# Altium integrated library Molex FFC - FPC Connectors (LVDS FFC Connectors).IntLib: 6 symbols
Pins are listed as number, name and electrical type; pins without a type are passive.

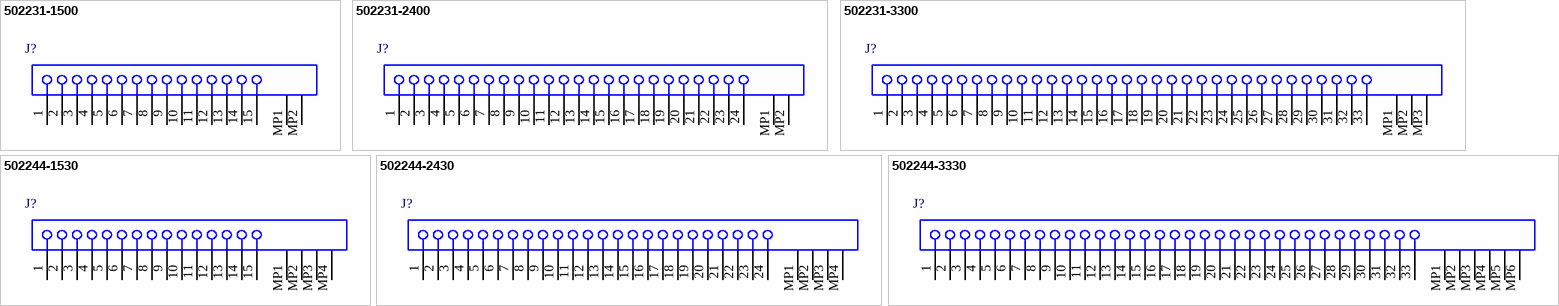
[diagram p0: symbols 502231-1500 to 502244-3330]

## 502231-1500
designator J?
0.5 mm Pitch Easy-On(TM) Type FFC Connector, for LVDS, 6.05 mm Mated Height, Vertical, ZIF, SMT, Top Contact, 15 Circuits, -25 to 85 degC, ELV and RoHS Compliant, Tape and Reel; Manufacturer: Molex; PartNumber: 502231-1500; Circuits (Loaded): 15; Current (Max per Contact): 0.4A; Durability (mating cycles max): 20; Mated Height: 6.05mm; Material - Metal: Phosphor Bronze; Material - Plating Mating: Gold, Tin; PCB Locator: No; PCB Retention: Yes; Pitch - Mating Interface: 0.50mm; Voltage (Max): 50V AC (RMS)/DC; PackageVersion: Rev. C, 03/2009; PackageReference: 502231-1500; PackageDescription: 15-Lead FFC Connector, Pitch 0.5 mm; Supplier 1: Newark; Supplier Part Number 1: 92M4918; Supplier 2: Mouser; Supplier Part Number 2: 538-502231-1500; Contact Position: Top; Entry Angle: Vertical; Material - Plating Termination: Gold, Tin; Number of Rows: 1; Orientation: Vertical; Packing: Tape and Reel; Pitch - Termination Interface: 0.50mm; Polarized to PCB: Yes; RoHS: TRUE; Stackable: No; Mounting Technology: Surface Mount; ComponentLink1Description: Manufacturer URL; ComponentLink1URL: http://www.molex.com/molex/index.jsp; ComponentLink2Description: Datasheet; ComponentLink2URL: http://www.molex.com/webdocs/datasheets/pdf/en-us/5022311500_FFC_FPC_CONNECTORS.pdf; ComponentLink3Description: Package Specification; ComponentLink3URL: http://www.molex.com/pdm_docs/sd/5022311500_sd.pdf
footprint MOLX-502231-1500 (FFC Connector, 15-Leads, Vertical, Pitch 0.5 mm, Mated Height 6.05 mm, SMT)
pins: 1, 2, 3, 4, 5, 6, 7, 8, 9, 10, 11, 12, 13, 14, 15, MP1, MP2

## 502231-2400
designator J?
0.5 mm Pitch Easy-On(TM) Type FFC Connector, for LVDS, 6.05 mm Mated Height, Vertical, ZIF, SMT, Top Contact, 24 Circuits, -25 to 85 degC, ELV and RoHS Compliant, Tape and Reel; Manufacturer: Molex; PartNumber: 502231-2400; Circuits (Loaded): 24; Current (Max per Contact): 0.4A; Durability (mating cycles max): 20; Mated Height: 6.05mm; Material - Metal: Phosphor Bronze; Material - Plating Mating: Gold, Tin; PCB Locator: No; PCB Retention: Yes; Pitch - Mating Interface: 0.50mm; Voltage (Max): 50V AC (RMS)/DC; PackageVersion: Rev. C, 03/2009; PackageReference: 502231-2400; PackageDescription: 24-Lead FFC Connector, Pitch 0.5 mm; Supplier 1: Mouser; Supplier Part Number 1: 538-502231-2400; Contact Position: Top; Entry Angle: Vertical; Material - Plating Termination: Gold, Tin; Number of Rows: 1; Orientation: Vertical; Packing: Tape and Reel; Pitch - Termination Interface: 0.50mm; Polarized to PCB: Yes; RoHS: TRUE; Stackable: No; Mounting Technology: Surface Mount; ComponentLink1Description: Manufacturer URL; ComponentLink1URL: http://www.molex.com/molex/index.jsp; ComponentLink2Description: Datasheet; ComponentLink2URL: http://www.molex.com/webdocs/datasheets/pdf/en-us/5022312400_FFC_FPC_CONNECTORS.pdf; ComponentLink3Description: Package Specification; ComponentLink3URL: http://www.molex.com/pdm_docs/sd/5022312400_sd.pdf
footprint MOLX-502231-2400 (FFC Connector, 24-Leads, Vertical, Pitch 0.5 mm, Mated Height 6.05 mm, SMT)
pins: 1, 2, 3, 4, 5, 6, 7, 8, 9, 10, 11, 12, 13, 14, 15, 16, 17, 18, 19, 20, 21, 22, 23, 24, MP1, MP2

## 502231-3300
designator J?
0.5 mm Pitch Easy-On(TM) Type FFC Connector, for LVDS, 6.05 mm Mated Height, Vertical, ZIF, SMT, Top Contact, 33 Circuits, -25 to 85 degC, ELV and RoHS Compliant, Tape and Reel; Manufacturer: Molex; PartNumber: 502231-3300; Circuits (Loaded): 33; Current (Max per Contact): 0.4A; Durability (mating cycles max): 20; Mated Height: 6.05mm; Material - Metal: Phosphor Bronze; Material - Plating Mating: Gold, Tin; PCB Locator: No; PCB Retention: Yes; Pitch - Mating Interface: 0.50mm; Voltage (Max): 50V AC (RMS)/DC; PackageVersion: Rev. C, 03/2009; PackageReference: 502231-3300; PackageDescription: 33-Lead FFC Connector, Pitch 0.5 mm; Supplier 1: Newark; Supplier Part Number 1: 92M4919; Supplier 2: Mouser; Supplier Part Number 2: 538-502231-3300; Contact Position: Top; Entry Angle: Vertical; Material - Plating Termination: Gold, Tin; Number of Rows: 1; Orientation: Vertical; Packing: Tape and Reel; Pitch - Termination Interface: 0.50mm; Polarized to PCB: Yes; RoHS: TRUE; Stackable: No; Mounting Technology: Surface Mount; ComponentLink1Description: Manufacturer URL; ComponentLink1URL: http://www.molex.com/molex/index.jsp; ComponentLink2Description: Datasheet; ComponentLink2URL: http://www.molex.com/webdocs/datasheets/pdf/en-us/5022313300_FFC_FPC_CONNECTORS.pdf; ComponentLink3Description: Package Specification; ComponentLink3URL: http://www.molex.com/pdm_docs/sd/5022313300_sd.pdf
footprint MOLX-502231-3300 (FFC Connector, 33-Leads, Vertical, Pitch 0.5 mm, Mated Height 6.05 mm, SMT)
pins: 1, 2, 3, 4, 5, 6, 7, 8, 9, 10, 11, 12, 13, 14, 15, 16, 17, 18, 19, 20, 21, 22, 23, 24, 25, 26, 27, 28, 29, 30, 31, 32, 33, MP1, MP2, MP3

## 502244-1530
designator J?
0.5 mm Pitch Easy-On(TM) Type FFC Connector, for LVDS, 2.33 mm Mated Height, Right Angle, ZIF, SMT, Bottom Contact, 15 Circuits, -25 to 85 degC, ELV and RoHS Compliant, Tape and Reel; Manufacturer: Molex; PartNumber: 502244-1530; Circuits (Loaded): 15; Current (Max per Contact): 0.4A; Durability (mating cycles max): 20; Entry Angle: 90degrees Angle; Mated Height: 2.33mm; Material - Metal: Phosphor Bronze; Material - Plating Mating: Gold; PCB Locator: No; PCB Retention: Yes; Pitch - Mating Interface: 0.50mm; Voltage (Max): 50V AC (RMS)/DC; PackageVersion: Rev. C, 03/2010; PackageReference: 502244-1530; PackageDescription: 15-Lead FFC Connector, Pitch 0.5 mm; Supplier 1: Mouser; Supplier Part Number 1: 538-502244-1530; Contact Position: Bottom; Material - Plating Termination: Gold; Number of Rows: 1; Orientation: Right Angle; Packing: Tape and Reel; Polarized to PCB: Yes; RoHS: TRUE; Stackable: No; Mounting Technology: Surface Mount; ComponentLink1Description: Manufacturer URL; ComponentLink1URL: http://www.molex.com/molex/index.jsp; ComponentLink2Description: Datasheet; ComponentLink2URL: http://www.molex.com/webdocs/datasheets/pdf/en-us/5022441530_FFC_FPC_CONNECTORS.pdf; ComponentLink3Description: Package Specification; ComponentLink3URL: http://www.molex.com/pdm_docs/sd/5022441530_sd.pdf
footprint MOLX-502244-1530 (FFC Connector, 15-Leads, Right Angle, Pitch 0.5 mm, Mated Height 2.33 mm, SMT)
pins: 1, 2, 3, 4, 5, 6, 7, 8, 9, 10, 11, 12, 13, 14, 15, MP1, MP2, MP3, MP4

## 502244-2430
designator J?
0.5 mm Pitch Easy-On(TM) Type FFC Connector, for LVDS, 2.33 mm Mated Height, Right Angle, ZIF, SMT, Bottom Contact, 24 Circuits, -25 to 85 degC, ELV and RoHS Compliant, Tape and Reel; Manufacturer: Molex; PartNumber: 502244-2430; Circuits (Loaded): 24; Current (Max per Contact): 0.4A; Durability (mating cycles max): 20; Entry Angle: 90degrees Angle; Mated Height: 2.33mm; Material - Metal: Phosphor Bronze; Material - Plating Mating: Gold; PCB Locator: No; PCB Retention: Yes; Pitch - Mating Interface: 0.50mm; Voltage (Max): 50V AC (RMS)/DC; PackageVersion: Rev. C, 03/2010; PackageReference: 502244-2430; PackageDescription: 24-Lead FFC Connector, Pitch 0.5 mm; Supplier 1: Mouser; Supplier Part Number 1: 538-502244-2430; Contact Position: Bottom; Material - Plating Termination: Gold; Number of Rows: 1; Orientation: Right Angle; Packing: Tape and Reel; Polarized to PCB: Yes; RoHS: TRUE; Stackable: No; Mounting Technology: Surface Mount; ComponentLink1Description: Manufacturer URL; ComponentLink1URL: http://www.molex.com/molex/index.jsp; ComponentLink2Description: Datasheet; ComponentLink2URL: http://www.molex.com/webdocs/datasheets/pdf/en-us/5022442430_FFC_FPC_CONNECTORS.pdf; ComponentLink3Description: Package Specification; ComponentLink3URL: http://www.molex.com/pdm_docs/sd/5022442430_sd.pdf
footprint MOLX-502244-2430 (FFC Connector, 24-Leads, Right Angle, Pitch 0.5 mm, Mated Height 2.33 mm, SMT)
pins: 1, 2, 3, 4, 5, 6, 7, 8, 9, 10, 11, 12, 13, 14, 15, 16, 17, 18, 19, 20, 21, 22, 23, 24, MP1, MP2, MP3, MP4

## 502244-3330
designator J?
0.5 mm Pitch Easy-On(TM) Type FFC Connector, for LVDS, 2.33 mm Mated Height, Right Angle, ZIF, SMT, Bottom Contact, 33 Circuits, -25 to 85 degC, ELV and RoHS Compliant, Tape and Reel; Manufacturer: Molex; PartNumber: 502244-3330; Circuits (Loaded): 33; Current (Max per Contact): 0.4A; Durability (mating cycles max): 20; Entry Angle: 90degrees Angle; Mated Height: 2.33mm; Material - Metal: Phosphor Bronze; Material - Plating Mating: Gold; PCB Locator: No; PCB Retention: Yes; Pitch - Mating Interface: 0.50mm; Voltage (Max): 50V AC (RMS)/DC; PackageVersion: Rev. C, 03/2010; PackageReference: 502244-3330; PackageDescription: 33-Lead FFC Connector, Pitch 0.5 mm; Supplier 1: Mouser; Supplier Part Number 1: 538-502244-3330; Contact Position: Bottom; Material - Plating Termination: Gold; Number of Rows: 1; Orientation: Right Angle; Packing: Tape and Reel; Polarized to PCB: Yes; RoHS: TRUE; Stackable: No; Mounting Technology: Surface Mount; ComponentLink1Description: Manufacturer URL; ComponentLink1URL: http://www.molex.com/molex/index.jsp; ComponentLink2Description: Datasheet; ComponentLink2URL: http://www.molex.com/webdocs/datasheets/pdf/en-us/5022443330_FFC_FPC_CONNECTORS.pdf; ComponentLink3Description: Package Specification; ComponentLink3URL: http://www.molex.com/pdm_docs/sd/5022443330_sd.pdf
footprint MOLX-502244-3330 (FFC Connector, 33-Leads, Right Angle, Pitch 0.5 mm, Mated Height 2.33 mm, SMT)
pins: 1, 2, 3, 4, 5, 6, 7, 8, 9, 10, 11, 12, 13, 14, 15, 16, 17, 18, 19, 20, 21, 22, 23, 24, 25, 26, 27, 28, 29, 30, 31, 32, 33, MP1, MP2, MP3, MP4, MP5, MP6